# EAGLE library part HDR2X8 (library wheat)
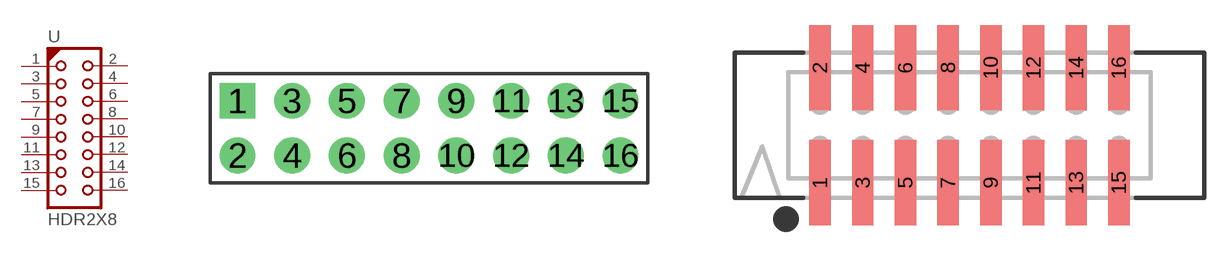
[diagram p191: symbol with the pads of HDR_2X8_2MM; footprints HDR_2X8_2MM, HDR2X8_SMT]

Designator prefix -

## HDR2X8_2MM  [HDR_2X8_2MM]
1  1  pas
2  2  pas
3  3  pas
4  4  pas
5  5  pas
6  6  pas
7  7  pas
8  8  pas
9  9  pas
10  10  pas
11  11  pas
12  12  pas
13  13  pas
14  14  pas
15  15  pas
16  16  pas

## HDR2X8_RA_SMT  [HDR2X8_SMT]
Pads as for HDR_2X8_2MM

## HDR2X8  [HDR2X8]
Pads as for HDR_2X8_2MM

## Footprint HDR_2X8_2MM (pad centres in mm)
drill 0.8 square: 1 -7,1
drill 0.8: 2 -7,-1; 3 -5,1; 4 -5,-1; 5 -3,1; 6 -3,-1; 7 -1,1; 8 -1,-1; 9 1,1; 10 1,-1; 11 3,1; 12 3,-1; 13 5,1; 14 5,-1; 15 7,1; 16 7,-1

## Footprint HDR2X8_SMT (pad centres in mm)
smd 1.27 x 5.08: 1 -8.89,-3.429; 2 -8.89,3.429; 3 -6.35,-3.429; 4 -6.35,3.429; 5 -3.81,-3.429; 6 -3.81,3.429; 7 -1.27,-3.429; 8 -1.27,3.429; 9 1.27,-3.429; 10 1.27,3.429; 11 3.81,-3.429; 12 3.81,3.429; 13 6.35,-3.429; 14 6.35,3.429; 15 8.89,-3.429; 16 8.89,3.429

## Footprint HDR2X8 (pad centres in mm)
drill 0.991 pad 1.422 square: 1 -8.89,-1.27
drill 0.991 pad 1.422: 2 -8.89,1.27; 3 -6.35,-1.27; 4 -6.35,1.27; 5 -3.81,-1.27; 6 -3.81,1.27; 7 -1.27,-1.27; 8 -1.27,1.27; 9 1.27,-1.27; 10 1.27,1.27; 11 3.81,-1.27; 12 3.81,1.27; 13 6.35,-1.27; 14 6.35,1.27; 15 8.89,-1.27; 16 8.89,1.27